# Altium footprint library RENESAS_PS2562-1-A.PcbLib: 1 footprints
Each footprint in its own frame and in the unit in brackets; x right, y up, seen from the top. Pads: shape width x height; smd on the part's side, far side on the other; paste and mask are expansions set on the pad; w line width, h text height; cw(c..) or ccw(c..) is an arc to the next point about the centre after c.
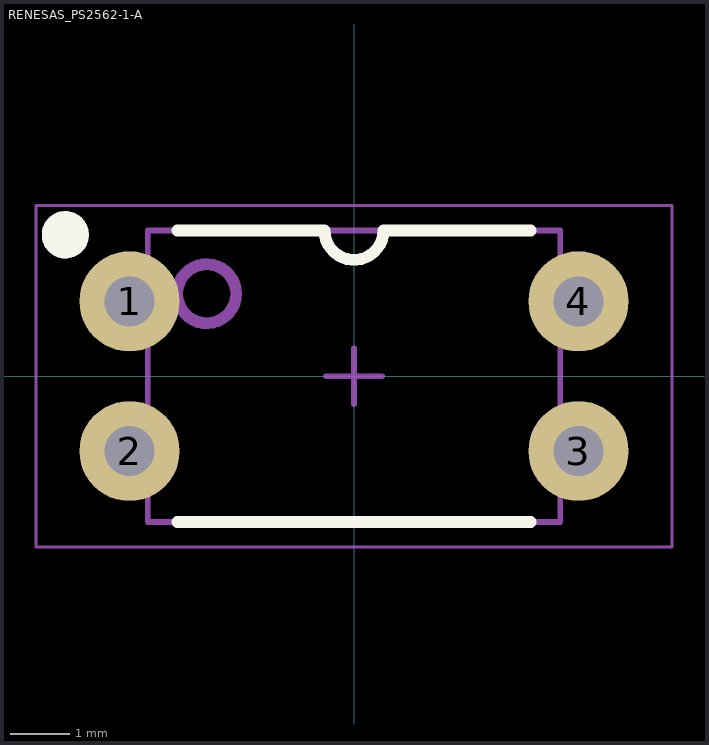
[diagram p0: the footprint, top view; thin cyan lines are the x and y axes]

## RENESAS_PS2562-1-A [mm]
height 4.55
pads (4):
  round 1.7 hole 0.85: 1(-3.81,1.27) 2(-3.81,-1.27) 3(3.81,-1.27) 4(3.81,1.27)
Top Overlay:
  circle w0.4: c-4.9,2.4 r0.2
  lines w0.2: -3,-2.475 3,-2.475 ; -3,2.475 -0.5,2.475 ccw(c0,2.475) 0.5,2.475 3,2.475
Top 3D Body:
  circle w0.4: c-4.9,2.4 r0.2
  circle w0.2: c-2.5,1.4 r0.5
  lines w0.1: -3.5,-2.475 -3.5,2.475 3.5,2.475 3.5,-2.475 -3.5,-2.475
Top Courtyard (Mech15):
  lines w0.05: -5.4,-2.9 -5.4,2.9 5.4,2.9 5.4,-2.9 -5.4,-2.9
  lines w0.1: -0.475,0 0.475,0 ; 0,-0.475 0,0.475
3D body: height 4.55, standoff 0, extent -3.5,-2.475 3.5,2.475